# EAGLE library part SL7.62-11-180B (library weid762)
Connector 7,62 mm, 11 Pole, 500V, 15A/Pole
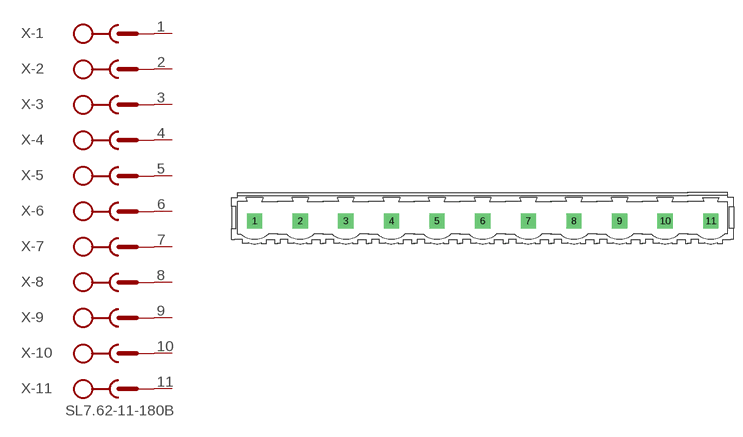
[diagram p5: symbol with the pads of SL7.62-11-180B; footprint SL7.62-11-180B]

Designator prefix X; gates -1=SK -2=SK -3=SK -4=SK -5=SK -6=SK -7=SK -8=SK -9=SK -10=SK -11=SK+V

## SL7.62-11-180B"  [SL7.62-11-180B]
1  -1:SK  pas
2  -2:SK  pas
3  -3:SK  pas
4  -4:SK  pas
5  -5:SK  pas
6  -6:SK  pas
7  -7:SK  pas
8  -8:SK  pas
9  -9:SK  pas
10  -10:SK  pas
11  -11:SK  pas

## Footprint SL7.62-11-180B (pad centres in mm)
Connector 7,62 mm, 11 polig, seitliche Befestigungsblock-Aufnahme!
drill 1.3 pad 2.54 square: 1 0,0; 2 7.62,0; 3 15.24,0; 4 22.86,0; 5 30.48,0; 6 38.1,0; 7 45.72,0; 8 53.34,0; 9 60.96,0; 10 68.58,0; 11 76.2,0